# Altium integrated library Analog Devices Data Converters Digital-to-Analog Converters.IntLib: 2231 symbols (part 103 of 181)
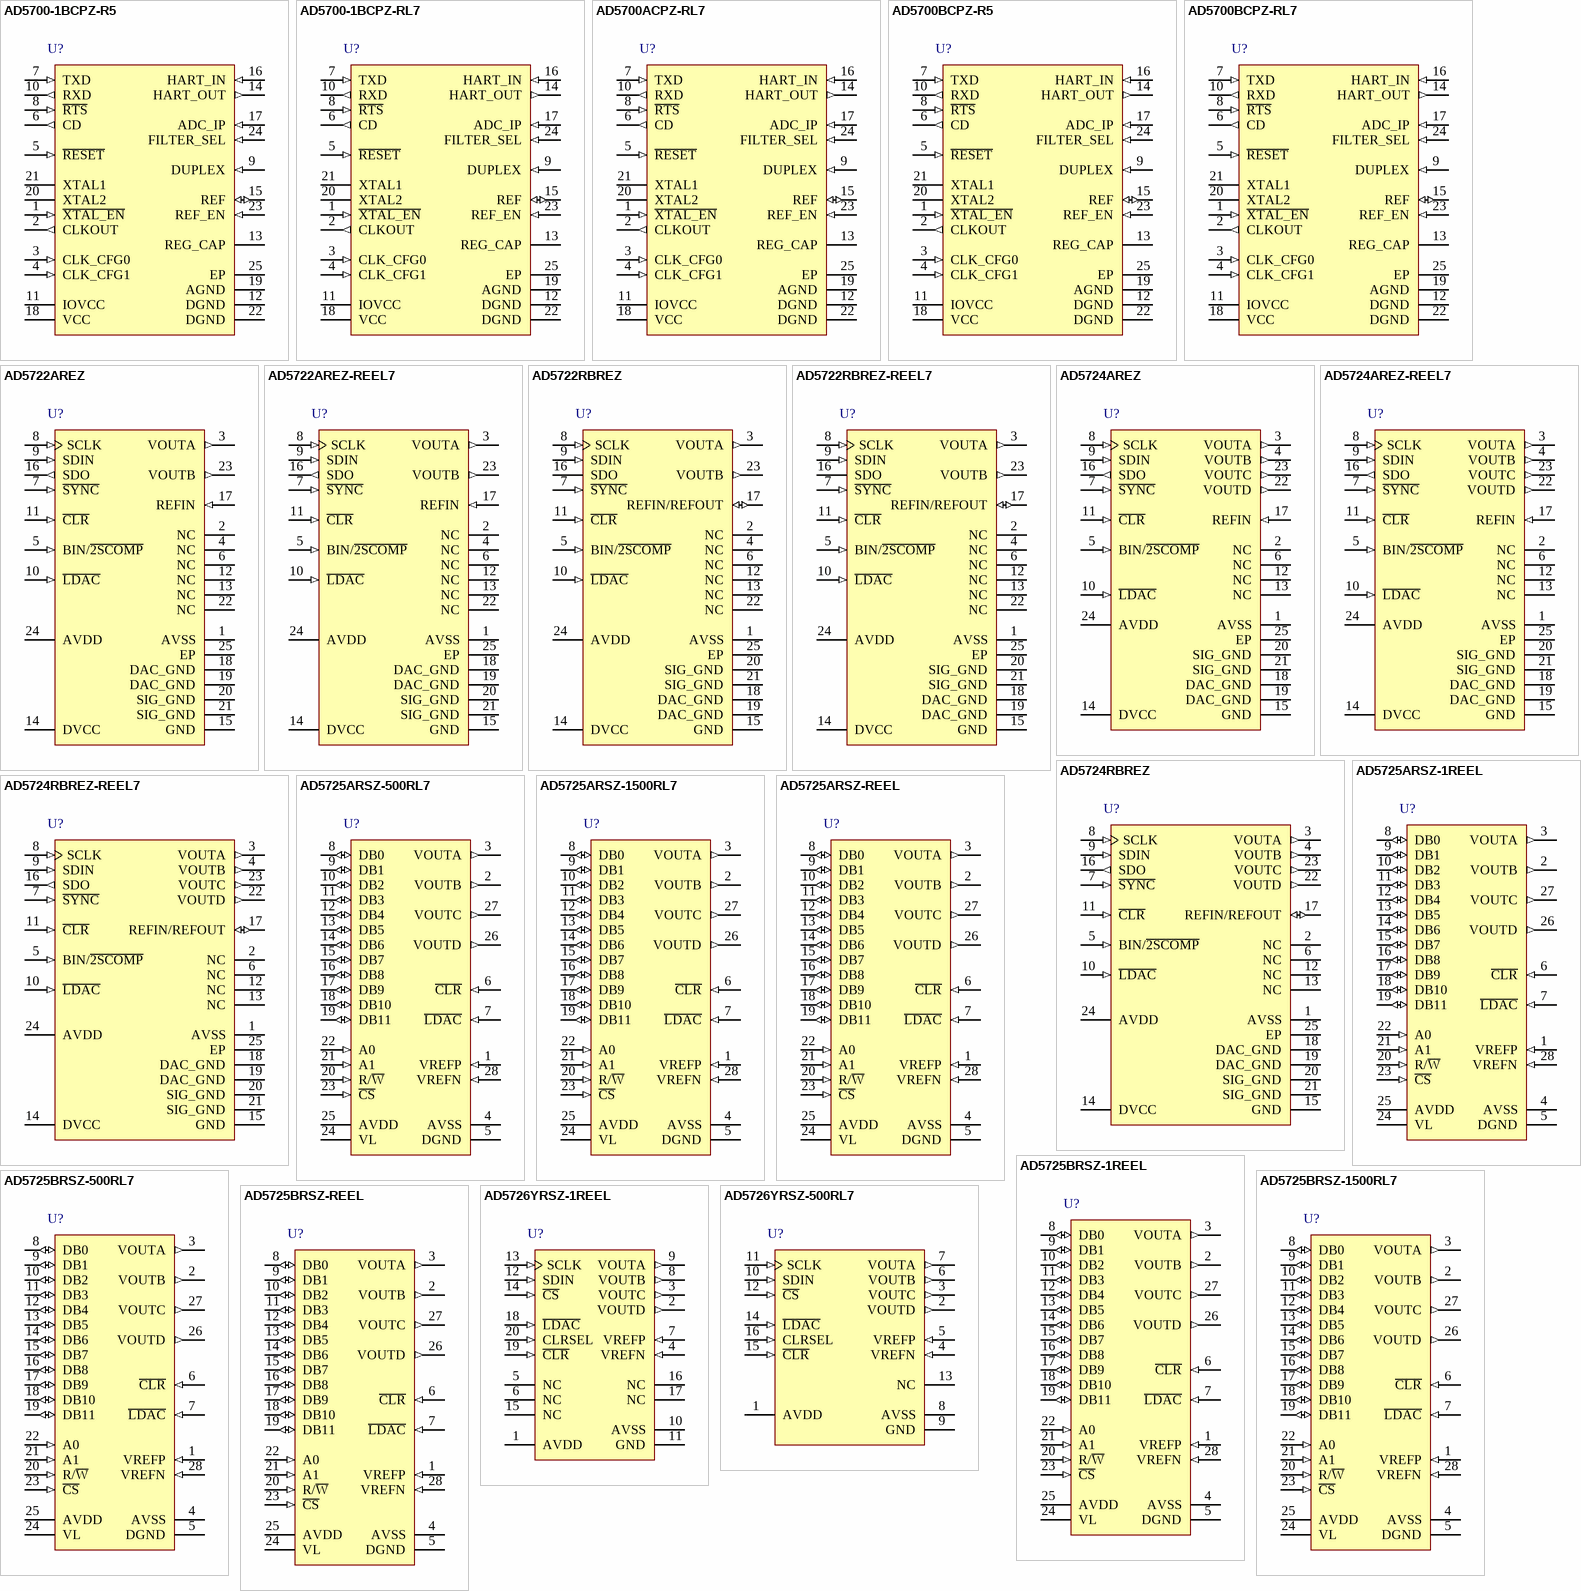
[diagram p216: symbols AD5700-1BCPZ-R5 to AD5726YRSZ-500RL7]

## AD5725BRSZ-1REEL
designator U?
12-Bit Voltage Output Digital-to-Analog Converter with Parallel Interface, -40 to +85 degC, RS-28, Pb-Free, Reel; Generic Part Number: AD5725; Manufacturer: Analog Devices; PartNumber: AD5725BRSZ-1REEL; # DAC Outputs: 4; Max V+: 15V; Op Pwr Diss: 270mW; Resolution (Bits): 12; Settling Time: 7µs; Single Supply: Yes; DatasheetVersion: Rev.A; PackageVersion: 060106-A; PackageReference: RS-28; PackageDescription: 28-Lead Shrink Small Outline Package [SSOP]; Supplier 1: Digi-Key; Supplier Part Number 1: AD5725BRSZ-1REELTR-ND; Supplier 2: Digi-Key; Supplier Part Number 2: AD5725BRSZ-1REELCT-ND; Supplier 3: Digi-Key; Supplier Part Number 3: AD5725BRSZ-1REELDKR-ND; Supplier 4: Mouser; Supplier Part Number 4: 584-AD5725BRSZ-1R; Packing: Reel; RoHS: Y; Mounting Technology: Surface Mount; Code_JEDEC: MO-150-AH; ComponentLink1Description: Manufacturer URL; ComponentLink1URL: http://www.analog.com/en/index.html; ComponentLink2Description: Datasheet; ComponentLink2URL: http://www.analog.com/static/imported-files/data_sheets/AD5725.pdf; ComponentLink3Description: Package Specification; ComponentLink3URL: http://www.analog.com/static/imported-files/packages/32122249223724RS_28.pdf; ComponentLink4Description: Product URL; ComponentLink4URL: http://www.analog.com/en/digital-to-analog-converters/da-converters/ad5725/products/product.html
footprint RS-28_N (SOP, 28-Leads, Body 10.2x5.3mm, Pitch 0.65mm, IPC Medium Density)
footprint RS-28_L (SOP, 28-Leads, Body 10.2x5.3mm, Pitch 0.65mm, IPC High Density)
footprint RS-28_M (SOP, 28-Leads, Body 10.2x5.3mm, Pitch 0.65mm, IPC Low Density)
pins: 1 VREFP (in) "Positive DAC Reference Input. The voltage applied to this pin defines the full-scale output voltage. Allowable range is AVDD - 2.5 V to VREFN + 2.5 V.", 2 VOUTB (out) "Buffered Analog Output Voltage of DAC B.", 3 VOUTA (out) "Buffered Analog Output Voltage of DAC A.", 4 AVSS (power) "Negative Analog Supply Pin. Voltage ranges from 0 V to -15 V.", 5 DGND (power) "Digital Ground Pin.", 6 ~{CLR} (in) "Active Low Input. Sets input registers and DAC registers to midscale (0x800) for the AD5725.", 7 ~{LDAC} (in) "Active Low Load DAC Input.", 8 DB0 (io) "Data Bit 0 (LSB).", 9 DB1 (io) "Data Bit 1.", 10 DB2 (io) "Data Bit 2.", 11 DB3 (io) "Data Bit 3.", 12 DB4 (io) "Data Bit 4.", 13 DB5 (io) "Data Bit 5.", 14 DB6 (io) "Data Bit 6.", 15 DB7 (io) "Data Bit 7.", 16 DB8 (io) "Data Bit 8.", 17 DB9 (io) "Data Bit 9.", 18 DB10 (io) "Data Bit 10.", 19 DB11 (io) "Data Bit 11 (MSB).", 20 R/~{W} (in) "Read/Write Pin. Active low to write data to DAC; Active high to read back previous data at data bit pins with VL connected to +5 V.", 21 A1 (in) "Address Bit 1.", 22 A0 (in) "Address Bit 0.", 23 ~{CS} (in) "Active Low Chip Select Pin.", 24 VL (power) "Voltage Supply for Readback Function. Can be left open circuit if not used.", 25 AVDD (power) "Positive Analog Supply Pin. Voltage ranges from +5 V to +15 V.", 26 VOUTD (out) "Buffered Analog Output Voltage of DAC D.", 27 VOUTC (out) "Buffered Analog Output Voltage of DAC C.", 28 VREFN (in) "Negative DAC Reference Input. The voltage applied to this pin defines the zero-scale output voltage. Allowable range is AVSS to VREFP - 2.5 V."

## AD5725BRSZ-500RL7
designator U?
Quad 12-Bit Voltage Output Digital-to-Analog Converter with Parallel Interface, -40 to +85 degC, RS-28, Pb-Free, Reel; Generic Part Number: AD5725; Manufacturer: Analog Devices; PartNumber: AD5725BRSZ-500RL7; # DAC Outputs: 4; Max V+: 15V; Op Pwr Diss: 270mW; Resolution (Bits): 12; Settling Time: 7µs; Single Supply: Yes; DatasheetVersion: Rev.A; PackageVersion: 060106-A; PackageReference: RS-28; PackageDescription: 28-Lead Shrink Small Outline Package [SSOP]; Supplier 1: Digi-Key; Supplier Part Number 1: AD5725BRSZ-500RL7TR-ND; Supplier 2: Digi-Key; Supplier Part Number 2: AD5725BRSZ-500RL7CT-ND; Supplier 3: Digi-Key; Supplier Part Number 3: AD5725BRSZ-500RL7DKR-ND; Supplier 4: Newark; Supplier Part Number 4: 34M5023; Supplier 5: Mouser; Supplier Part Number 5: 584-AD5725BRSZ-500R7; Packing: Reel; RoHS: Y; Mounting Technology: Surface Mount; Code_JEDEC: MO-150-AH; ComponentLink1Description: Manufacturer URL; ComponentLink1URL: http://www.analog.com/en/index.html; ComponentLink2Description: Datasheet; ComponentLink2URL: http://www.analog.com/static/imported-files/data_sheets/AD5725.pdf; ComponentLink3Description: Package Specification; ComponentLink3URL: http://www.analog.com/static/imported-files/packages/32122249223724RS_28.pdf; ComponentLink4Description: Product URL; ComponentLink4URL: http://www.analog.com/en/digital-to-analog-converters/da-converters/ad5725/products/product.html
footprint RS-28_N (SOP, 28-Leads, Body 10.2x5.3mm, Pitch 0.65mm, IPC Medium Density)
footprint RS-28_L (SOP, 28-Leads, Body 10.2x5.3mm, Pitch 0.65mm, IPC High Density)
footprint RS-28_M (SOP, 28-Leads, Body 10.2x5.3mm, Pitch 0.65mm, IPC Low Density)
pins: 1 VREFP (in) "Positive DAC Reference Input. The voltage applied to this pin defines the full-scale output voltage. Allowable range is AVDD - 2.5 V to VREFN + 2.5 V.", 2 VOUTB (out) "Buffered Analog Output Voltage of DAC B.", 3 VOUTA (out) "Buffered Analog Output Voltage of DAC A.", 4 AVSS (power) "Negative Analog Supply Pin. Voltage ranges from 0 V to -15 V.", 5 DGND (power) "Digital Ground Pin.", 6 ~{CLR} (in) "Active Low Input. Sets input registers and DAC registers to midscale (0x800) for the AD5725.", 7 ~{LDAC} (in) "Active Low Load DAC Input.", 8 DB0 (io) "Data Bit 0 (LSB).", 9 DB1 (io) "Data Bit 1.", 10 DB2 (io) "Data Bit 2.", 11 DB3 (io) "Data Bit 3.", 12 DB4 (io) "Data Bit 4.", 13 DB5 (io) "Data Bit 5.", 14 DB6 (io) "Data Bit 6.", 15 DB7 (io) "Data Bit 7.", 16 DB8 (io) "Data Bit 8.", 17 DB9 (io) "Data Bit 9.", 18 DB10 (io) "Data Bit 10.", 19 DB11 (io) "Data Bit 11 (MSB).", 20 R/~{W} (in) "Read/Write Pin. Active low to write data to DAC; Active high to read back previous data at data bit pins with VL connected to +5 V.", 21 A1 (in) "Address Bit 1.", 22 A0 (in) "Address Bit 0.", 23 ~{CS} (in) "Active Low Chip Select Pin.", 24 VL (power) "Voltage Supply for Readback Function. Can be left open circuit if not used.", 25 AVDD (power) "Positive Analog Supply Pin. Voltage ranges from +5 V to +15 V.", 26 VOUTD (out) "Buffered Analog Output Voltage of DAC D.", 27 VOUTC (out) "Buffered Analog Output Voltage of DAC C.", 28 VREFN (in) "Negative DAC Reference Input. The voltage applied to this pin defines the zero-scale output voltage. Allowable range is AVSS to VREFP - 2.5 V."

## AD5725BRSZ-1500RL7
designator U?
12-Bit Voltage Output Digital-to-Analog Converter with Parallel Interface, -40 to +85 degC, RS-28, Pb-Free, Reel; Generic Part Number: AD5725; Manufacturer: Analog Devices; PartNumber: AD5725BRSZ-1500RL7; # DAC Outputs: 4; Max V+: 15V; Op Pwr Diss: 270mW; Resolution (Bits): 12; Settling Time: 7µs; Single Supply: Yes; DatasheetVersion: Rev.A; PackageVersion: 060106-A; PackageReference: RS-28; PackageDescription: 28-Lead Shrink Small Outline Package [SSOP]; Supplier 1: Digi-Key; Supplier Part Number 1: AD5725BRSZ-1500RL7TR-ND; Supplier 2: Digi-Key; Supplier Part Number 2: AD5725BRSZ-1500RL7CT-ND; Supplier 3: Digi-Key; Supplier Part Number 3: AD5725BRSZ-1500RL7DKR-ND; Supplier 4: Mouser; Supplier Part Number 4: 584-AD5725BRSZ1500R7; Packing: Reel; RoHS: Y; Mounting Technology: Surface Mount; Code_JEDEC: MO-150-AH; ComponentLink1Description: Manufacturer URL; ComponentLink1URL: http://www.analog.com/en/index.html; ComponentLink2Description: Datasheet; ComponentLink2URL: http://www.analog.com/static/imported-files/data_sheets/AD5725.pdf; ComponentLink3Description: Package Specification; ComponentLink3URL: http://www.analog.com/static/imported-files/packages/32122249223724RS_28.pdf; ComponentLink4Description: Product URL; ComponentLink4URL: http://www.analog.com/en/digital-to-analog-converters/da-converters/ad5725/products/product.html
footprint RS-28_N (SOP, 28-Leads, Body 10.2x5.3mm, Pitch 0.65mm, IPC Medium Density)
footprint RS-28_L (SOP, 28-Leads, Body 10.2x5.3mm, Pitch 0.65mm, IPC High Density)
footprint RS-28_M (SOP, 28-Leads, Body 10.2x5.3mm, Pitch 0.65mm, IPC Low Density)
pins: 1 VREFP (in) "Positive DAC Reference Input. The voltage applied to this pin defines the full-scale output voltage. Allowable range is AVDD - 2.5 V to VREFN + 2.5 V.", 2 VOUTB (out) "Buffered Analog Output Voltage of DAC B.", 3 VOUTA (out) "Buffered Analog Output Voltage of DAC A.", 4 AVSS (power) "Negative Analog Supply Pin. Voltage ranges from 0 V to -15 V.", 5 DGND (power) "Digital Ground Pin.", 6 ~{CLR} (in) "Active Low Input. Sets input registers and DAC registers to midscale (0x800) for the AD5725.", 7 ~{LDAC} (in) "Active Low Load DAC Input.", 8 DB0 (io) "Data Bit 0 (LSB).", 9 DB1 (io) "Data Bit 1.", 10 DB2 (io) "Data Bit 2.", 11 DB3 (io) "Data Bit 3.", 12 DB4 (io) "Data Bit 4.", 13 DB5 (io) "Data Bit 5.", 14 DB6 (io) "Data Bit 6.", 15 DB7 (io) "Data Bit 7.", 16 DB8 (io) "Data Bit 8.", 17 DB9 (io) "Data Bit 9.", 18 DB10 (io) "Data Bit 10.", 19 DB11 (io) "Data Bit 11 (MSB).", 20 R/~{W} (in) "Read/Write Pin. Active low to write data to DAC; Active high to read back previous data at data bit pins with VL connected to +5 V.", 21 A1 (in) "Address Bit 1.", 22 A0 (in) "Address Bit 0.", 23 ~{CS} (in) "Active Low Chip Select Pin.", 24 VL (power) "Voltage Supply for Readback Function. Can be left open circuit if not used.", 25 AVDD (power) "Positive Analog Supply Pin. Voltage ranges from +5 V to +15 V.", 26 VOUTD (out) "Buffered Analog Output Voltage of DAC D.", 27 VOUTC (out) "Buffered Analog Output Voltage of DAC C.", 28 VREFN (in) "Negative DAC Reference Input. The voltage applied to this pin defines the zero-scale output voltage. Allowable range is AVSS to VREFP - 2.5 V."

## AD5725BRSZ-REEL
designator U?
Quad 12-Bit Voltage Output Digital-to-Analog Converter with Parallel Interface, -40 to +85 degC, RS-28, Pb-Free, Reel; Generic Part Number: AD5725; Manufacturer: Analog Devices; PartNumber: AD5725BRSZ-REEL; # DAC Outputs: 4; Max V+: 15V; Op Pwr Diss: 270mW; Resolution (Bits): 12; Settling Time: 7µs; Single Supply: Yes; DatasheetVersion: Rev.A; PackageVersion: 060106-A; PackageReference: RS-28; PackageDescription: 28-Lead Shrink Small Outline Package [SSOP]; Supplier 1: Digi-Key; Supplier Part Number 1: AD5725BRSZ-REELTR-ND; Supplier 2: Digi-Key; Supplier Part Number 2: AD5725BRSZ-REELCT-ND; Supplier 3: Digi-Key; Supplier Part Number 3: AD5725BRSZ-REELDKR-ND; Supplier 4: Newark; Supplier Part Number 4: 34M5020; Supplier 5: Mouser; Supplier Part Number 5: 584-AD5725BRSZ-R; Packing: Reel; RoHS: Y; Mounting Technology: Surface Mount; Code_JEDEC: MO-150-AH; ComponentLink1Description: Manufacturer URL; ComponentLink1URL: http://www.analog.com/en/index.html; ComponentLink2Description: Datasheet; ComponentLink2URL: http://www.analog.com/static/imported-files/data_sheets/AD5725.pdf; ComponentLink3Description: Package Specification; ComponentLink3URL: http://www.analog.com/static/imported-files/packages/32122249223724RS_28.pdf; ComponentLink4Description: Product URL; ComponentLink4URL: http://www.analog.com/en/digital-to-analog-converters/da-converters/ad5725/products/product.html
footprint RS-28_N (SOP, 28-Leads, Body 10.2x5.3mm, Pitch 0.65mm, IPC Medium Density)
footprint RS-28_L (SOP, 28-Leads, Body 10.2x5.3mm, Pitch 0.65mm, IPC High Density)
footprint RS-28_M (SOP, 28-Leads, Body 10.2x5.3mm, Pitch 0.65mm, IPC Low Density)
pins: 1 VREFP (in) "Positive DAC Reference Input. The voltage applied to this pin defines the full-scale output voltage. Allowable range is AVDD - 2.5 V to VREFN + 2.5 V.", 2 VOUTB (out) "Buffered Analog Output Voltage of DAC B.", 3 VOUTA (out) "Buffered Analog Output Voltage of DAC A.", 4 AVSS (power) "Negative Analog Supply Pin. Voltage ranges from 0 V to -15 V.", 5 DGND (power) "Digital Ground Pin.", 6 ~{CLR} (in) "Active Low Input. Sets input registers and DAC registers to midscale (0x800) for the AD5725.", 7 ~{LDAC} (in) "Active Low Load DAC Input.", 8 DB0 (io) "Data Bit 0 (LSB).", 9 DB1 (io) "Data Bit 1.", 10 DB2 (io) "Data Bit 2.", 11 DB3 (io) "Data Bit 3.", 12 DB4 (io) "Data Bit 4.", 13 DB5 (io) "Data Bit 5.", 14 DB6 (io) "Data Bit 6.", 15 DB7 (io) "Data Bit 7.", 16 DB8 (io) "Data Bit 8.", 17 DB9 (io) "Data Bit 9.", 18 DB10 (io) "Data Bit 10.", 19 DB11 (io) "Data Bit 11 (MSB).", 20 R/~{W} (in) "Read/Write Pin. Active low to write data to DAC; Active high to read back previous data at data bit pins with VL connected to +5 V.", 21 A1 (in) "Address Bit 1.", 22 A0 (in) "Address Bit 0.", 23 ~{CS} (in) "Active Low Chip Select Pin.", 24 VL (power) "Voltage Supply for Readback Function. Can be left open circuit if not used.", 25 AVDD (power) "Positive Analog Supply Pin. Voltage ranges from +5 V to +15 V.", 26 VOUTD (out) "Buffered Analog Output Voltage of DAC D.", 27 VOUTC (out) "Buffered Analog Output Voltage of DAC C.", 28 VREFN (in) "Negative DAC Reference Input. The voltage applied to this pin defines the zero-scale output voltage. Allowable range is AVSS to VREFP - 2.5 V."

## AD5726YRSZ-1REEL
designator U?
Quad 12-Bit Voltage Output Digital-to-Analog Converter with Serial Interface, -40 to +125 degC, RS-20, Pb-Free, Reel; Generic Part Number: AD5726; Manufacturer: Analog Devices; PartNumber: AD5726YRSZ-1REEL; # DAC Outputs: 4; Max V+: 15.75V; Op Pwr Diss: 240mW; Resolution (Bits): 12; Settling Time: 9µs; Single Supply: Yes; DatasheetVersion: Rev.B; PackageVersion: Mar-2003; PackageReference: RS-20; PackageDescription: 20-Lead Shrink Small Outline Package [SSOP]; Supplier 1: Digi-Key; Supplier Part Number 1: AD5726YRSZ-1REELTR-ND; Supplier 2: Digi-Key; Supplier Part Number 2: AD5726YRSZ-1REELCT-ND; Supplier 3: Digi-Key; Supplier Part Number 3: AD5726YRSZ-1REELDKR-ND; Supplier 4: Mouser; Supplier Part Number 4: 584-AD5726YRSZ-1R; Packing: Reel; RoHS: Y; Mounting Technology: Surface Mount; Code_JEDEC: MO-150AE; ComponentLink1Description: Manufacturer URL; ComponentLink1URL: http://www.analog.com/en/index.html; ComponentLink2Description: Datasheet; ComponentLink2URL: http://www.analog.com/static/imported-files/data_sheets/AD5726.pdf; ComponentLink3Description: Package Specification; ComponentLink3URL: http://www.analog.com/static/imported-files/packages/318405805657546556503576154334802686596RS_20.pdf; ComponentLink4Description: Product URL; ComponentLink4URL: http://www.analog.com/en/digital-to-analog-converters/da-converters/ad5726/products/product.html
footprint RS-20_N (SOP, 20-Leads, Body 7.2x5.3mm, Pitch 0.65mm, IPC Medium Density)
footprint RS-20_L (SOP, 20-Leads, Body 7.2x5.3mm, Pitch 0.65mm, IPC High Density)
footprint RS-20_M (SOP, 20-Leads, Body 7.2x5.3mm, Pitch 0.65mm, IPC Low Density)
pins: 1 AVDD (power) "Positive Analog Supply Pin. Voltage range is from 5 V to 15 V.", 2 VOUTD (out) "Buffered Analog Output Voltage of DAC D.", 3 VOUTC (out) "Buffered Analog Output Voltage of DAC C.", 4 VREFN (in) "Negative DAC Reference Input. The voltage applied to this pin defines the zero-scale output. Allowable range is AVSS to VREFP - 2.5 V.", 5 NC "No Internal Connection.", 6 NC "No Internal Connection.", 7 VREFP (in) "Positive DAC Reference Input. The voltage applied to this pin defines the full-scale output voltage. Allowable range is AVDD - 2.5 V to VREFN + 2.5 V.", 8 VOUTB (out) "Buffered Analog Output Voltage of DAC B.", 9 VOUTA (out) "Buffered Analog Output Voltage of DAC A.", 10 AVSS (power) "Negative Analog Supply Pin. Voltage range is from 0 V to -15 V.", 11 GND (power) "Ground Reference Pin.", 12 SDIN (in) "Serial Data Input. Data must be valid on the rising edge of SCLK. This input is ignored when C\S\ is high.", 13 SCLK (in) "Serial Clock Input. Data is clocked into the input register on the rising edge of SCLK.", 14 ~{CS} (in) "Active Low Chip Select Pin. This pin must be active for data to be clocked in. This pin is logically OR’ed with the SCLK input and disables the serial data input when high.", 15 NC "No Internal Connection.", 16 NC "No Internal Connection.", 17 NC "No Internal Connection.", 18 ~{LDAC} (in) "Active Low, Asynchronous Load DAC Input. The data currently contained in the serial input register is transferred out to the DAC data registers on the falling edge of L\D\A\C\, independent of C\S\. Input data must remain (See Datasheet)", 19 ~{CLR} (in) "Active Low Input. Sets input register and DAC registers to zero-scale (0x000) or midscale (0x800), depending on the state of CLRSEL. The data in the serial input register is unaffected by this control.", 20 CLRSEL (in) "Determines the action of C\L\R\. If high, a clear command sets the internal DAC registers to midscale (0x800). If low, the registers are set to zero (0x000)."

## AD5726YRSZ-500RL7
designator U?
Quad 12-Bit Voltage Output Digital-to-Analog Converter with Serial Interface, -40 to +125 degC, RS-16, Pb-Free, Reel; Generic Part Number: AD5726; Manufacturer: Analog Devices; PartNumber: AD5726YRSZ-500RL7; # DAC Outputs: 4; Max V+: 15.75V; Op Pwr Diss: 240mW; Resolution (Bits): 12; Settling Time: 9µs; Single Supply: Yes; DatasheetVersion: Rev.B; PackageVersion: Mar-2005; PackageReference: RS-16; PackageDescription: 16-Lead Shrink Small Outline Package [SSOP]; Supplier 1: Digi-Key; Supplier Part Number 1: AD5726YRSZ-500RL7TR-ND; Supplier 2: Digi-Key; Supplier Part Number 2: AD5726YRSZ-500RL7CT-ND; Supplier 3: Digi-Key; Supplier Part Number 3: AD5726YRSZ-500RL7DKR-ND; Supplier 4: Newark; Supplier Part Number 4: 46M5261; Supplier 5: Mouser; Supplier Part Number 5: 584-AD5726YRSZ-500R7; Packing: Reel; RoHS: Y; Mounting Technology: Surface Mount; Code_JEDEC: MO-150-AC; ComponentLink1Description: Manufacturer URL; ComponentLink1URL: http://www.analog.com/en/index.html; ComponentLink2Description: Datasheet; ComponentLink2URL: http://www.analog.com/static/imported-files/data_sheets/AD5726.pdf; ComponentLink3Description: Package Specification; ComponentLink3URL: http://www.analog.com/static/imported-files/packages/31572257652246RS_16.pdf; ComponentLink4Description: Product URL; ComponentLink4URL: http://www.analog.com/en/digital-to-analog-converters/da-converters/ad5726/products/product.html
footprint RS-16_N (SOP, 16-Leads, Body 6.2x5.3mm, Pitch 0.65mm, IPC Medium Density)
footprint RS-16_L (SOP, 16-Leads, Body 6.2x5.3mm, Pitch 0.65mm, IPC High Density)
footprint RS-16_M (SOP, 16-Leads, Body 6.2x5.3mm, Pitch 0.65mm, IPC Low Density)
pins: 1 AVDD (power) "Positive Analog Supply Pin. Voltage range is from 5 V to 15 V.", 2 VOUTD (out) "Buffered Analog Output Voltage of DAC D.", 3 VOUTC (out) "Buffered Analog Output Voltage of DAC C.", 4 VREFN (in) "Negative DAC Reference Input. The voltage applied to this pin defines the zero-scale output. Allowable range is AVSS to VREFP -2.5 V.", 5 VREFP (in) "Positive DAC Reference Input. The voltage applied to this pin defines the full-scale output voltage. Allowable range is AVDD - 2.5 V to VREFN +2.5 V.", 6 VOUTB (out) "Buffered Analog Output Voltage of DAC B.", 7 VOUTA (out) "Buffered Analog Output Voltage of DAC A.", 8 AVSS (power) "Negative Analog Supply Pin. Voltage range is from 0 V to -15 V.", 9 GND (power) "Ground Reference Pin.", 10 SDIN (in) "Serial Data Input. Data must be valid on the rising edge of SCLK. This input is ignored when C\S\ is high.", 11 SCLK (in) "Serial Clock Input. Data is clocked into the input register on the rising edge of SCLK.", 12 ~{CS} (in) "Active Low Chip Select Pin. This pin must be active for data to be clocked in. This pin is logically OR’ed with the SCLK input and disables the serial data input when high.", 13 NC "No Internal Connection.", 14 ~{LDAC} (in) "Active Low, Asynchronous Load DAC Input. The data currently contained in the serial input register is transferred out to the DAC data registers on the falling edge of L\D\A\C\, independent of C\S\. Input data must remain (See Datasheet)", 15 ~{CLR} (in) "Active Low Input. Sets input register and DAC registers to zero-scale (0x000) or midscale (0x800), depending on the state of CLRSEL. The data in the serial input register is unaffected by this control.", 16 CLRSEL (in) "Determines the action of C\L\R\. If high, a clear command sets the internal DAC registers to midscale (0x800). If low, the registers are set to zero (0x000)."

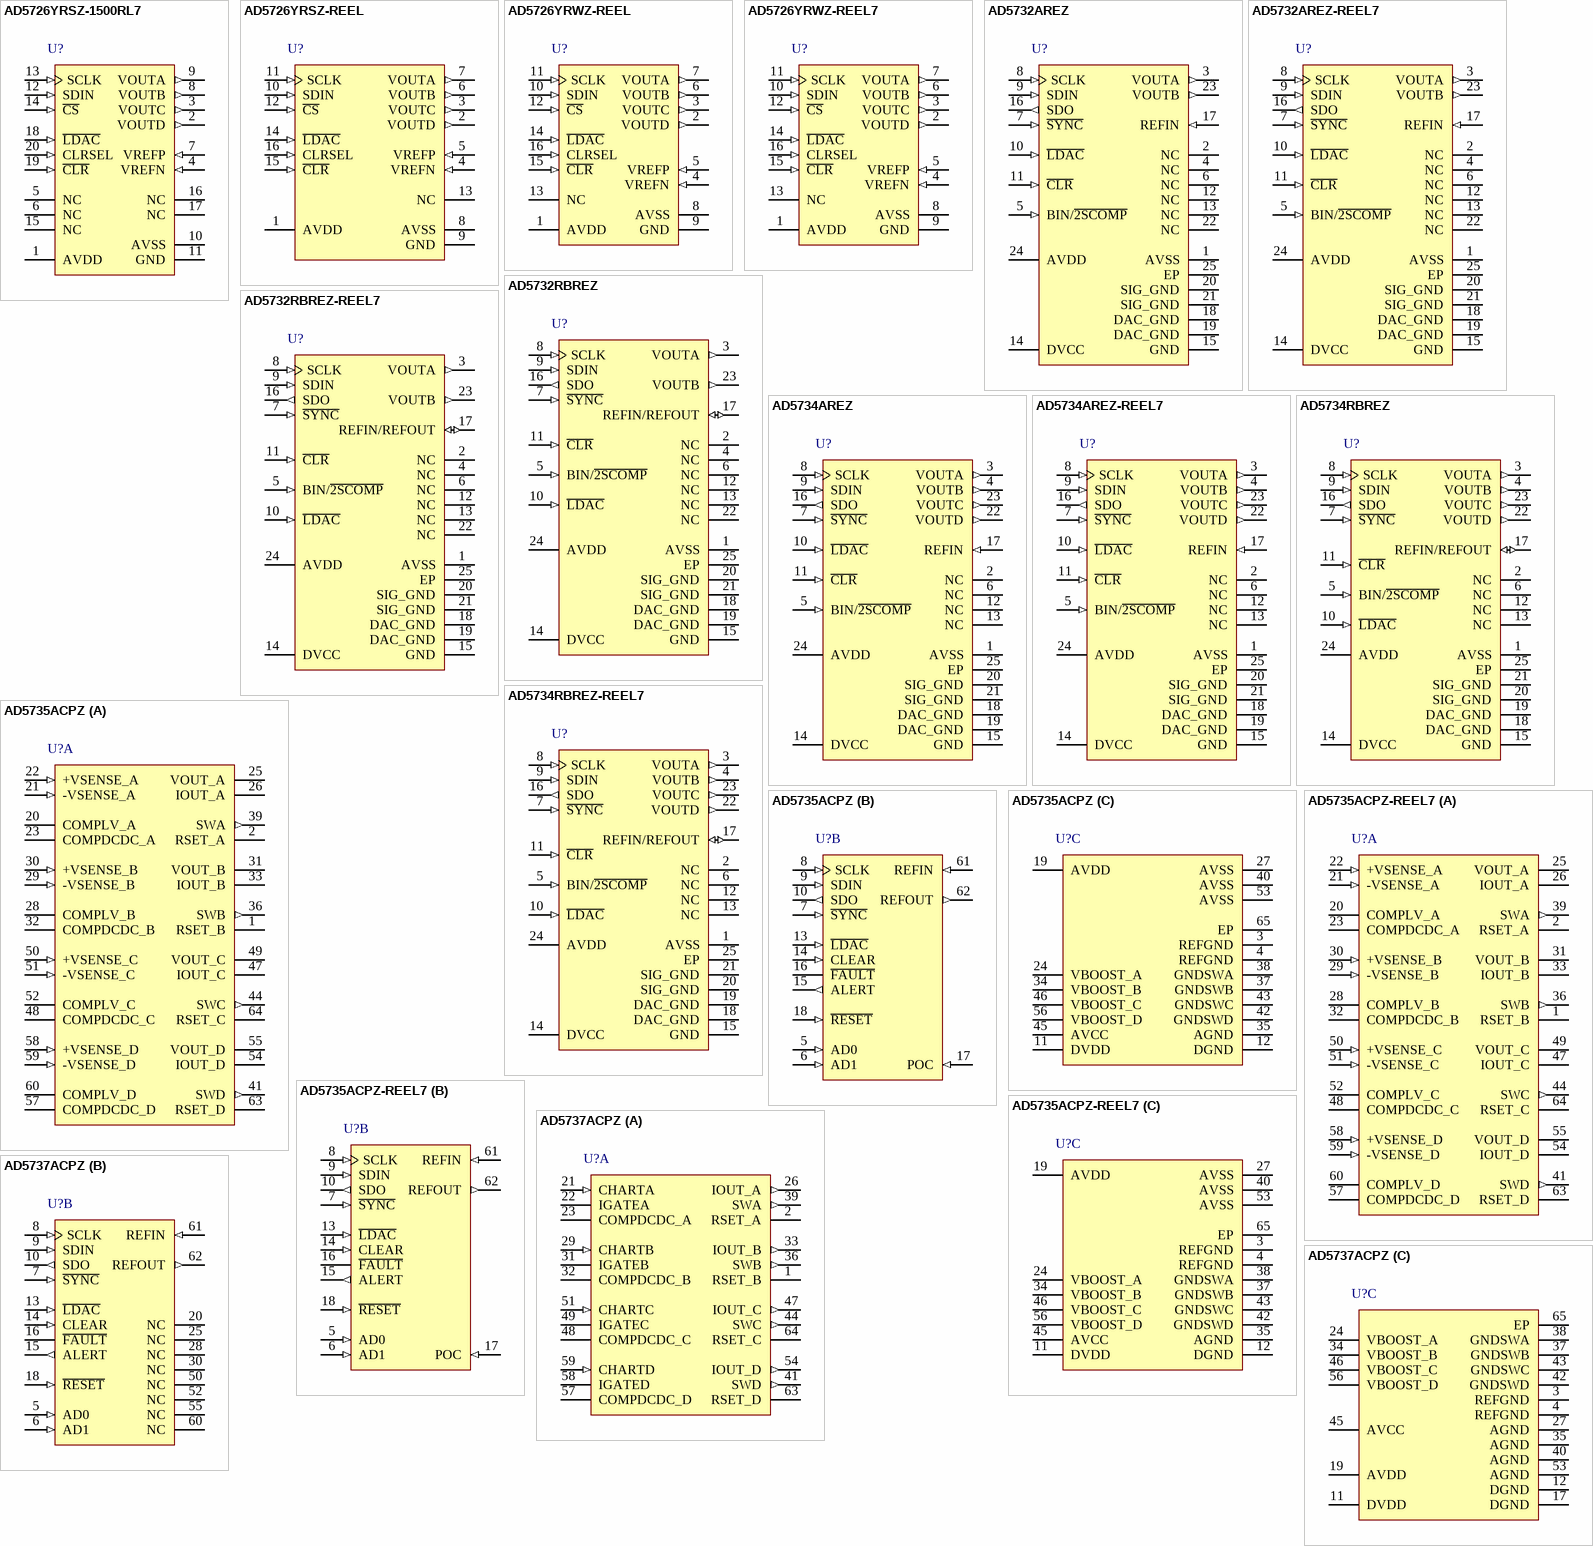
[diagram p54: symbols AD5726YRSZ-1500RL7 to AD5737ACPZ]

## AD5726YRSZ-1500RL7
designator U?
Quad 12-Bit Voltage Output Digital-to-Analog Converter with Serial Interface, -40 to +125 degC, RS-20, Pb-Free, Reel; Generic Part Number: AD5726; Manufacturer: Analog Devices; PartNumber: AD5726YRSZ-1500RL7; # DAC Outputs: 4; Max V+: 15.75V; Op Pwr Diss: 240mW; Resolution (Bits): 12; Settling Time: 9µs; Single Supply: Yes; DatasheetVersion: Rev.B; PackageVersion: Mar-2003; PackageReference: RS-20; PackageDescription: 20-Lead Shrink Small Outline Package [SSOP]; Supplier 1: Digi-Key; Supplier Part Number 1: AD5726YRSZ-1500RL7TR-ND; Supplier 2: Digi-Key; Supplier Part Number 2: AD5726YRSZ-1500RL7CT-ND; Supplier 3: Digi-Key; Supplier Part Number 3: AD5726YRSZ-1500RL7DKR-ND; Supplier 4: Mouser; Supplier Part Number 4: 584-AD5726YRSZ1500R7; Packing: Reel; RoHS: Y; Mounting Technology: Surface Mount; Code_JEDEC: MO-150AE; ComponentLink1Description: Manufacturer URL; ComponentLink1URL: http://www.analog.com/en/index.html; ComponentLink2Description: Datasheet; ComponentLink2URL: http://www.analog.com/static/imported-files/data_sheets/AD5726.pdf; ComponentLink3Description: Package Specification; ComponentLink3URL: http://www.analog.com/static/imported-files/packages/318405805657546556503576154334802686596RS_20.pdf; ComponentLink4Description: Product URL; ComponentLink4URL: http://www.analog.com/en/digital-to-analog-converters/da-converters/ad5726/products/product.html
footprint RS-20_N (SOP, 20-Leads, Body 7.2x5.3mm, Pitch 0.65mm, IPC Medium Density)
footprint RS-20_L (SOP, 20-Leads, Body 7.2x5.3mm, Pitch 0.65mm, IPC High Density)
footprint RS-20_M (SOP, 20-Leads, Body 7.2x5.3mm, Pitch 0.65mm, IPC Low Density)
pins: 1 AVDD (power) "Positive Analog Supply Pin. Voltage range is from 5 V to 15 V.", 2 VOUTD (out) "Buffered Analog Output Voltage of DAC D.", 3 VOUTC (out) "Buffered Analog Output Voltage of DAC C.", 4 VREFN (in) "Negative DAC Reference Input. The voltage applied to this pin defines the zero-scale output. Allowable range is AVSS to VREFP - 2.5 V.", 5 NC "No Internal Connection.", 6 NC "No Internal Connection.", 7 VREFP (in) "Positive DAC Reference Input. The voltage applied to this pin defines the full-scale output voltage. Allowable range is AVDD - 2.5 V to VREFN + 2.5 V.", 8 VOUTB (out) "Buffered Analog Output Voltage of DAC B.", 9 VOUTA (out) "Buffered Analog Output Voltage of DAC A.", 10 AVSS (power) "Negative Analog Supply Pin. Voltage range is from 0 V to -15 V.", 11 GND (power) "Ground Reference Pin.", 12 SDIN (in) "Serial Data Input. Data must be valid on the rising edge of SCLK. This input is ignored when C\S\ is high.", 13 SCLK (in) "Serial Clock Input. Data is clocked into the input register on the rising edge of SCLK.", 14 ~{CS} (in) "Active Low Chip Select Pin. This pin must be active for data to be clocked in. This pin is logically OR’ed with the SCLK input and disables the serial data input when high.", 15 NC "No Internal Connection.", 16 NC "No Internal Connection.", 17 NC "No Internal Connection.", 18 ~{LDAC} (in) "Active Low, Asynchronous Load DAC Input. The data currently contained in the serial input register is transferred out to the DAC data registers on the falling edge of L\D\A\C\, independent of C\S\. Input data must remain (See Datasheet)", 19 ~{CLR} (in) "Active Low Input. Sets input register and DAC registers to zero-scale (0x000) or midscale (0x800), depending on the state of CLRSEL. The data in the serial input register is unaffected by this control.", 20 CLRSEL (in) "Determines the action of C\L\R\. If high, a clear command sets the internal DAC registers to midscale (0x800). If low, the registers are set to zero (0x000)."

## AD5726YRSZ-REEL
designator U?
Quad 12-Bit Voltage Output Digital-to-Analog Converter with Serial Interface, -40 to +125 degC, RS-16, Pb-Free, Reel; Generic Part Number: AD5726; Manufacturer: Analog Devices; PartNumber: AD5726YRSZ-REEL; # DAC Outputs: 4; Max V+: 15.75V; Op Pwr Diss: 240mW; Resolution (Bits): 12; Settling Time: 9µs; Single Supply: Yes; DatasheetVersion: Rev.B; PackageVersion: Mar-2005; PackageReference: RS-16; PackageDescription: 16-Lead Shrink Small Outline Package [SSOP]; Supplier 1: Digi-Key; Supplier Part Number 1: AD5726YRSZ-REELTR-ND; Supplier 2: Digi-Key; Supplier Part Number 2: AD5726YRSZ-REELCT-ND; Supplier 3: Digi-Key; Supplier Part Number 3: AD5726YRSZ-REELDKR-ND; Supplier 4: Farnell; Supplier Part Number 4: 2314134; Supplier 5: Newark; Supplier Part Number 5: 67W3170; Supplier 6: Newark; Supplier Part Number 6: 46M5260; Supplier 7: Mouser; Supplier Part Number 7: 584-AD5726YRSZ-R; Packing: Reel; RoHS: Y; Mounting Technology: Surface Mount; Code_JEDEC: MO-150-AC; ComponentLink1Description: Manufacturer URL; ComponentLink1URL: http://www.analog.com/en/index.html; ComponentLink2Description: Datasheet; ComponentLink2URL: http://www.analog.com/static/imported-files/data_sheets/AD5726.pdf; ComponentLink3Description: Package Specification; ComponentLink3URL: http://www.analog.com/static/imported-files/packages/31572257652246RS_16.pdf; ComponentLink4Description: Product URL; ComponentLink4URL: http://www.analog.com/en/digital-to-analog-converters/da-converters/ad5726/products/product.html
footprint RS-16_N (SOP, 16-Leads, Body 6.2x5.3mm, Pitch 0.65mm, IPC Medium Density)
footprint RS-16_L (SOP, 16-Leads, Body 6.2x5.3mm, Pitch 0.65mm, IPC High Density)
footprint RS-16_M (SOP, 16-Leads, Body 6.2x5.3mm, Pitch 0.65mm, IPC Low Density)
pins: 1 AVDD (power) "Positive Analog Supply Pin. Voltage range is from 5 V to 15 V.", 2 VOUTD (out) "Buffered Analog Output Voltage of DAC D.", 3 VOUTC (out) "Buffered Analog Output Voltage of DAC C.", 4 VREFN (in) "Negative DAC Reference Input. The voltage applied to this pin defines the zero-scale output. Allowable range is AVSS to VREFP -2.5 V.", 5 VREFP (in) "Positive DAC Reference Input. The voltage applied to this pin defines the full-scale output voltage. Allowable range is AVDD - 2.5 V to VREFN +2.5 V.", 6 VOUTB (out) "Buffered Analog Output Voltage of DAC B.", 7 VOUTA (out) "Buffered Analog Output Voltage of DAC A.", 8 AVSS (power) "Negative Analog Supply Pin. Voltage range is from 0 V to -15 V.", 9 GND (power) "Ground Reference Pin.", 10 SDIN (in) "Serial Data Input. Data must be valid on the rising edge of SCLK. This input is ignored when C\S\ is high.", 11 SCLK (in) "Serial Clock Input. Data is clocked into the input register on the rising edge of SCLK.", 12 ~{CS} (in) "Active Low Chip Select Pin. This pin must be active for data to be clocked in. This pin is logically OR’ed with the SCLK input and disables the serial data input when high.", 13 NC "No Internal Connection.", 14 ~{LDAC} (in) "Active Low, Asynchronous Load DAC Input. The data currently contained in the serial input register is transferred out to the DAC data registers on the falling edge of L\D\A\C\, independent of C\S\. Input data must remain (See Datasheet)", 15 ~{CLR} (in) "Active Low Input. Sets input register and DAC registers to zero-scale (0x000) or midscale (0x800), depending on the state of CLRSEL. The data in the serial input register is unaffected by this control.", 16 CLRSEL (in) "Determines the action of C\L\R\. If high, a clear command sets the internal DAC registers to midscale (0x800). If low, the registers are set to zero (0x000)."

## AD5726YRWZ-REEL
designator U?
Quad 12-Bit Voltage Output Digital-to-Analog Converter with Serial Interface, -40 to +125 degC, RW-16, Pb-Free, Reel; Generic Part Number: AD5726; Manufacturer: Analog Devices; PartNumber: AD5726YRWZ-REEL; # DAC Outputs: 4; Max V+: 15.75V; Op Pwr Diss: 240mW; Resolution (Bits): 12; Settling Time: 9µs; Single Supply: Yes; DatasheetVersion: Rev.B; PackageVersion: 032707-B; PackageReference: RW-16; PackageDescription: 16-Lead Standard Small Outline Package [SOIC_W]; Supplier 1: Digi-Key; Supplier Part Number 1: AD5726YRWZ-REELTR-ND; Supplier 2: Digi-Key; Supplier Part Number 2: AD5726YRWZ-REELCT-ND; Supplier 3: Digi-Key; Supplier Part Number 3: AD5726YRWZ-REELDKR-ND; Supplier 4: Mouser; Supplier Part Number 4: 584-AD5726YRWZ-R; Packing: Reel; RoHS: Y; Mounting Technology: Surface Mount; Code_JEDEC: MS-013-AA; Code_IPC: SOIC127P1030-16; ComponentLink1Description: Manufacturer URL; ComponentLink1URL: http://www.analog.com/en/index.html; ComponentLink2Description: Datasheet; ComponentLink2URL: http://www.analog.com/static/imported-files/data_sheets/AD5726.pdf; ComponentLink3Description: Package Specification; ComponentLink3URL: http://www.analog.com/static/imported-files/packages/PKG_PDF/SOIC_WIDE%20%28RW%29/RW_16.pdf; ComponentLink4Description: Product URL; ComponentLink4URL: http://www.analog.com/en/digital-to-analog-converters/da-converters/ad5726/products/product.html
footprint RW-16_N (SOIC, 16-Leads, Body 10.3x7.5mm, Pitch 1.27mm, IPC Medium Density)
footprint RW-16_L (SOIC, 16-Leads, Body 10.3x7.5mm, Pitch 1.27mm, IPC High Density)
footprint RW-16_M (SOIC, 16-Leads, Body 10.3x7.5mm, Pitch 1.27mm, IPC Low Density)
pins: 1 AVDD (power) "Positive Analog Supply Pin. Voltage range is from 5 V to 15 V.", 2 VOUTD (out) "Buffered Analog Output Voltage of DAC D.", 3 VOUTC (out) "Buffered Analog Output Voltage of DAC C.", 4 VREFN (in) "Negative DAC Reference Input. The voltage applied to this pin defines the zero-scale output. Allowable range is AVSS to VREFP - 2.5 V.", 5 VREFP (in) "Positive DAC Reference Input. The voltage applied to this pin defines the full-scale output voltage. Allowable range is AVDD - 2.5 V to VREFN + 2.5 V.", 6 VOUTB (out) "Buffered Analog Output Voltage of DAC B.", 7 VOUTA (out) "Buffered Analog Output Voltage of DAC A.", 8 AVSS (power) "Negative Analog Supply Pin. Voltage range is from 0 V to -15 V.", 9 GND (power) "Ground Reference Pin.", 10 SDIN (in) "Serial Data Input. Data must be valid on the rising edge of SCLK. This input is ignored when C\S\ is high.", 11 SCLK (in) "Serial Clock Input. Data is clocked into the input register on the rising edge of SCLK.", 12 ~{CS} (in) "Active Low Chip Select Pin. This pin must be active for data to be clocked in. This pin is logically OR’ed with the SCLK input and disables the serial data input when high.", 13 NC "No Internal Connection.", 14 ~{LDAC} (in) "Active Low, Asynchronous Load DAC Input. The data currently contained in the serial input register is transferred out to the DAC data registers on the falling edge of L\D\A\C\, independent of C\S\. Input data must remain (See Datasheet)", 15 ~{CLR} (in) "Active Low Input. Sets input register and DAC registers to zero-scale (0x000) or midscale (0x800), depending on the state of CLRSEL. The data in the serial input register is unaffected by this control.", 16 CLRSEL (in) "Determines the action of C\L\R\. If high, a clear command sets the internal DAC registers to midscale (0x800). If low, the registers are set to zero (0x000)."

## AD5726YRWZ-REEL7
designator U?
Quad 12-Bit Voltage Output Digital-to-Analog Converter with Serial Interface, -40 to +125 degC, RW-16, Pb-Free, Reel; Generic Part Number: AD5726; Manufacturer: Analog Devices; PartNumber: AD5726YRWZ-REEL7; # DAC Outputs: 4; Max V+: 15.75V; Op Pwr Diss: 240mW; Resolution (Bits): 12; Settling Time: 9µs; Single Supply: Yes; DatasheetVersion: Rev.B; PackageVersion: 032707-B; PackageReference: RW-16; PackageDescription: 16-Lead Standard Small Outline Package [SOIC_W]; Supplier 1: Digi-Key; Supplier Part Number 1: AD5726YRWZ-REEL7TR-ND; Supplier 2: Digi-Key; Supplier Part Number 2: AD5726YRWZ-REEL7CT-ND; Supplier 3: Digi-Key; Supplier Part Number 3: AD5726YRWZ-REEL7DKR-ND; Supplier 4: Newark; Supplier Part Number 4: 46M5263; Supplier 5: Mouser; Supplier Part Number 5: 584-AD5726YRWZ-R7; Packing: Reel; RoHS: Y; Mounting Technology: Surface Mount; Code_JEDEC: MS-013-AA; Code_IPC: SOIC127P1030-16; ComponentLink1Description: Manufacturer URL; ComponentLink1URL: http://www.analog.com/en/index.html; ComponentLink2Description: Datasheet; ComponentLink2URL: http://www.analog.com/static/imported-files/data_sheets/AD5726.pdf; ComponentLink3Description: Package Specification; ComponentLink3URL: http://www.analog.com/static/imported-files/packages/PKG_PDF/SOIC_WIDE%20%28RW%29/RW_16.pdf; ComponentLink4Description: Product URL; ComponentLink4URL: http://www.analog.com/en/digital-to-analog-converters/da-converters/ad5726/products/product.html
footprint RW-16_N (SOIC, 16-Leads, Body 10.3x7.5mm, Pitch 1.27mm, IPC Medium Density)
footprint RW-16_L (SOIC, 16-Leads, Body 10.3x7.5mm, Pitch 1.27mm, IPC High Density)
footprint RW-16_M (SOIC, 16-Leads, Body 10.3x7.5mm, Pitch 1.27mm, IPC Low Density)
pins: 1 AVDD (power) "Positive Analog Supply Pin. Voltage range is from 5 V to 15 V.", 2 VOUTD (out) "Buffered Analog Output Voltage of DAC D.", 3 VOUTC (out) "Buffered Analog Output Voltage of DAC C.", 4 VREFN (in) "Negative DAC Reference Input. The voltage applied to this pin defines the zero-scale output. Allowable range is AVSS to VREFP - 2.5 V.", 5 VREFP (in) "Positive DAC Reference Input. The voltage applied to this pin defines the full-scale output voltage. Allowable range is AVDD - 2.5 V to VREFN + 2.5 V.", 6 VOUTB (out) "Buffered Analog Output Voltage of DAC B.", 7 VOUTA (out) "Buffered Analog Output Voltage of DAC A.", 8 AVSS (power) "Negative Analog Supply Pin. Voltage range is from 0 V to -15 V.", 9 GND (power) "Ground Reference Pin.", 10 SDIN (in) "Serial Data Input. Data must be valid on the rising edge of SCLK. This input is ignored when C\S\ is high.", 11 SCLK (in) "Serial Clock Input. Data is clocked into the input register on the rising edge of SCLK.", 12 ~{CS} (in) "Active Low Chip Select Pin. This pin must be active for data to be clocked in. This pin is logically OR’ed with the SCLK input and disables the serial data input when high.", 13 NC "No Internal Connection.", 14 ~{LDAC} (in) "Active Low, Asynchronous Load DAC Input. The data currently contained in the serial input register is transferred out to the DAC data registers on the falling edge of L\D\A\C\, independent of C\S\. Input data must remain (See Datasheet)", 15 ~{CLR} (in) "Active Low Input. Sets input register and DAC registers to zero-scale (0x000) or midscale (0x800), depending on the state of CLRSEL. The data in the serial input register is unaffected by this control.", 16 CLRSEL (in) "Determines the action of C\L\R\. If high, a clear command sets the internal DAC registers to midscale (0x800). If low, the registers are set to zero (0x000)."

## AD5732AREZ
designator U?
Dual 14-Bit Voltage Output Digital-to-Analog Converter with Serial Interface, -40 to +85 degC, RE-24, Pb-Free, Tube; Generic Part Number: AD5732; Manufacturer: Analog Devices; PartNumber: AD5732AREZ; # DAC Outputs: 2; Max V+: 16.5V; Op Pwr Diss: 190mW; Resolution (Bits): 14; Settling Time: 10µs; Single Supply: Yes; DatasheetVersion: Rev.D; PackageVersion: 050806-A; PackageReference: RE-24; PackageDescription: 24-Lead Thin Shrink Small Outline Package, Exposed Pad [TSSOP_EP]; Supplier 1: Digi-Key; Supplier Part Number 1: AD5732AREZ-ND; Supplier 2: Mouser; Supplier Part Number 2: 584-AD5732AREZ; Packing: Tube; RoHS: Y; Mounting Technology: Surface Mount; Code_JEDEC: MO-153-ADT; ComponentLink1Description: Manufacturer URL; ComponentLink1URL: http://www.analog.com/en/index.html; ComponentLink2Description: Datasheet; ComponentLink2URL: http://www.analog.com/static/imported-files/data_sheets/AD5722_5732_5752.pdf; ComponentLink3Description: Package Specification; ComponentLink3URL: http://www.analog.com/static/imported-files/packages/PKG_PDF/TSSOP_EP(RE)/RE_24.pdf; ComponentLink4Description: Product URL; ComponentLink4URL: http://www.analog.com/en/digital-to-analog-converters/da-converters/ad5732/products/product.html; ComponentLink5Description: Reference Design URL; ComponentLink5URL: http://www.analog.com/en/digital-to-analog-converters/da-converters/ad5732/products/product.html#prod_cross_sell
footprint RE-24_N (TSOP, 24-Leads, Body 7.8x4.4mm, Pitch 0.65mm, Thermal pad 5.02x3.25 mm, IPC Medium Density)
footprint RE-24_L (TSOP, 24-Leads, Body 7.8x4.4mm, Pitch 0.65mm, Thermal pad 5.02x3.25 mm, IPC High Density)
footprint RE-24_M (TSOP, 24-Leads, Body 7.8x4.4mm, Pitch 0.65mm, Thermal pad 5.02x3.25 mm, IPC Low Density)
pins: 1 AVSS (power) "Negative Analog Supply. Voltage ranges from -4.5 V to -16.5 V. This pin can be connected to 0 V if output ranges are unipolar.", 2 NC "Do not connect to these pins.", 3 VOUTA (out) "Analog Output Voltage of DAC A. The output amplifier is capable of directly driving a 2 k ohm, 4000 pF load.", 4 NC "Do not connect to these pins.", 5 BIN/~{2SCOMP} (in) "Determines the DAC coding for a bipolar output range. This pin should be hardwired to either DVCC or GND.When hardwired to DVCC, input coding is offset binary. When hardwired to GND, input coding is twos complement. (For (See Datasheet)", 6 NC "Do not connect to these pins.", 7 ~{SYNC} (in) "Active Low Input. This is the frame synchronization signal for the serial interface. While S\Y\N\C\ is low, data is transferred on the falling edge of SCLK. Data is latched on the rising edge of S\Y\N\C\.", 8 SCLK (in) "Serial Clock Input. Data is clocked into the shift register on the falling edge of SCLK. This operates at clock speeds up to 30 MHz.", 9 SDIN (in) "Serial Data Input. Data must be valid on the falling edge of SCLK.", 10 ~{LDAC} (in) "Load DAC, Logic Input. This is used to update the DAC registers and, consequently, the analog outputs. When this pin is tied permanently low, the addressed DAC register is updated on the rising edge of S\Y\N\C\. If L\D\A\C\ (See Datasheet)", 11 ~{CLR} (in) "Active Low Input. Asserting this pin sets the DAC registers to zero-scale code or midscale code (user-selectable).", 12 NC "Do not connect to these pins.", 13 NC "Do not connect to these pins.", 14 DVCC (power) "Digital Supply. Voltage ranges from 2.7 V to 5.5 V.", 15 GND (power) "Ground Reference.", 16 SDO (out) "Serial Data Output. Used to clock data from the serial register in daisy-chain or readback mode. Data is clocked out on the rising edge of SCLK and is valid on the falling edge of SCLK.", 17 REFIN (in) "External Reference Voltage Input. Reference input range is 2 V to 3 V. REFIN = 2.5 V for specified performance.", 18 DAC_GND (power) "Ground Reference for the Two Digital-to-Analog Converters (DACs).", 19 DAC_GND (power) "Ground Reference for the Two Digital-to-Analog Converters (DACs).", 20 SIG_GND (power) "Ground Reference for the Two Output Amplifiers.", 21 SIG_GND (power) "Ground Reference for the Two Output Amplifiers.", 22 NC "Do not connect to these pins.", 23 VOUTB (out) "Analog Output Voltage of DAC B. The output amplifier is capable of directly driving a 2 k ohm, 4000 pF load.", 24 AVDD (power) "Positive Analog Supply. Voltage ranges from 4.5 V to 16.5 V.", 25 EP (power) "This exposed paddle should be connected to the potential of the AVSS pin, or alternatively, it can be left electrically unconnected. It is recommended that the paddle be thermally connected to a copper plane for enhanced (See Datasheet)"

## AD5732AREZ-REEL7
designator U?
Dual 14-Bit Voltage Output Digital-to-Analog Converter with Serial Interface, -40 to +85 degC, RE-24, Pb-Free, Reel; Generic Part Number: AD5732; Manufacturer: Analog Devices; PartNumber: AD5732AREZ-REEL7; # DAC Outputs: 2; Max V+: 16.5V; Op Pwr Diss: 190mW; Resolution (Bits): 14; Settling Time: 10µs; Single Supply: Yes; DatasheetVersion: Rev.D; PackageVersion: 050806-A; PackageReference: RE-24; PackageDescription: 24-Lead Thin Shrink Small Outline Package, Exposed Pad [TSSOP_EP]; Supplier 1: Digi-Key; Supplier Part Number 1: AD5732AREZ-REEL7-ND; Supplier 2: Mouser; Supplier Part Number 2: 584-AD5732AREZ-R7; Packing: Reel; RoHS: Y; Mounting Technology: Surface Mount; Code_JEDEC: MO-153-ADT; ComponentLink1Description: Manufacturer URL; ComponentLink1URL: http://www.analog.com/en/index.html; ComponentLink2Description: Datasheet; ComponentLink2URL: http://www.analog.com/static/imported-files/data_sheets/AD5722_5732_5752.pdf; ComponentLink3Description: Package Specification; ComponentLink3URL: http://www.analog.com/static/imported-files/packages/PKG_PDF/TSSOP_EP(RE)/RE_24.pdf; ComponentLink4Description: Product URL; ComponentLink4URL: http://www.analog.com/en/digital-to-analog-converters/da-converters/ad5732/products/product.html; ComponentLink5Description: Reference Design URL; ComponentLink5URL: http://www.analog.com/en/digital-to-analog-converters/da-converters/ad5732/products/product.html#prod_cross_sell
footprint RE-24_N (TSOP, 24-Leads, Body 7.8x4.4mm, Pitch 0.65mm, Thermal pad 5.02x3.25 mm, IPC Medium Density)
footprint RE-24_L (TSOP, 24-Leads, Body 7.8x4.4mm, Pitch 0.65mm, Thermal pad 5.02x3.25 mm, IPC High Density)
footprint RE-24_M (TSOP, 24-Leads, Body 7.8x4.4mm, Pitch 0.65mm, Thermal pad 5.02x3.25 mm, IPC Low Density)
pins: 1 AVSS (power) "Negative Analog Supply. Voltage ranges from -4.5 V to -16.5 V. This pin can be connected to 0 V if output ranges are unipolar.", 2 NC "Do not connect to these pins.", 3 VOUTA (out) "Analog Output Voltage of DAC A. The output amplifier is capable of directly driving a 2 k ohm, 4000 pF load.", 4 NC "Do not connect to these pins.", 5 BIN/~{2SCOMP} (in) "Determines the DAC coding for a bipolar output range. This pin should be hardwired to either DVCC or GND.When hardwired to DVCC, input coding is offset binary. When hardwired to GND, input coding is twos complement. (For (See Datasheet)", 6 NC "Do not connect to these pins.", 7 ~{SYNC} (in) "Active Low Input. This is the frame synchronization signal for the serial interface. While S\Y\N\C\ is low, data is transferred on the falling edge of SCLK. Data is latched on the rising edge of S\Y\N\C\.", 8 SCLK (in) "Serial Clock Input. Data is clocked into the shift register on the falling edge of SCLK. This operates at clock speeds up to 30 MHz.", 9 SDIN (in) "Serial Data Input. Data must be valid on the falling edge of SCLK.", 10 ~{LDAC} (in) "Load DAC, Logic Input. This is used to update the DAC registers and, consequently, the analog outputs. When this pin is tied permanently low, the addressed DAC register is updated on the rising edge of S\Y\N\C\. If L\D\A\C\ (See Datasheet)", 11 ~{CLR} (in) "Active Low Input. Asserting this pin sets the DAC registers to zero-scale code or midscale code (user-selectable).", 12 NC "Do not connect to these pins.", 13 NC "Do not connect to these pins.", 14 DVCC (power) "Digital Supply. Voltage ranges from 2.7 V to 5.5 V.", 15 GND (power) "Ground Reference.", 16 SDO (out) "Serial Data Output. Used to clock data from the serial register in daisy-chain or readback mode. Data is clocked out on the rising edge of SCLK and is valid on the falling edge of SCLK.", 17 REFIN (in) "External Reference Voltage Input. Reference input range is 2 V to 3 V. REFIN = 2.5 V for specified performance.", 18 DAC_GND (power) "Ground Reference for the Two Digital-to-Analog Converters (DACs).", 19 DAC_GND (power) "Ground Reference for the Two Digital-to-Analog Converters (DACs).", 20 SIG_GND (power) "Ground Reference for the Two Output Amplifiers.", 21 SIG_GND (power) "Ground Reference for the Two Output Amplifiers.", 22 NC "Do not connect to these pins.", 23 VOUTB (out) "Analog Output Voltage of DAC B. The output amplifier is capable of directly driving a 2 k ohm, 4000 pF load.", 24 AVDD (power) "Positive Analog Supply. Voltage ranges from 4.5 V to 16.5 V.", 25 EP (power) "This exposed paddle should be connected to the potential of the AVSS pin, or alternatively, it can be left electrically unconnected. It is recommended that the paddle be thermally connected to a copper plane for enhanced (See Datasheet)"

## AD5732RBREZ
designator U?
Dual 14-Bit Voltage Output Digital-to-Analog Converter with Serial Interface, -40 to +85 degC, RE-24, Pb-Free, Tube; Generic Part Number: AD5732R; Manufacturer: Analog Devices; PartNumber: AD5732RBREZ; # DAC Outputs: 2; Max V+: 16.5V; Op Pwr Diss: 190mW; Resolution (Bits): 14; Settling Time: 7.5µs; Single Supply: Yes; DatasheetVersion: Rev.D; PackageVersion: 050806-A; PackageReference: RE-24; PackageDescription: 24-Lead Thin Shrink Small Outline Package, Exposed Pad [TSSOP_EP]; Supplier 1: Digi-Key; Supplier Part Number 1: AD5732RBREZ-ND; Supplier 2: Mouser; Supplier Part Number 2: 584-AD5732RBREZ; Packing: Tube; RoHS: Y; Mounting Technology: Surface Mount; Code_JEDEC: MO-153-ADT; ComponentLink1Description: Manufacturer URL; ComponentLink1URL: http://www.analog.com/en/index.html; ComponentLink2Description: Datasheet; ComponentLink2URL: http://www.analog.com/static/imported-files/data_sheets/AD5722R_5732R_5752R.pdf; ComponentLink3Description: Package Specification; ComponentLink3URL: http://www.analog.com/static/imported-files/packages/PKG_PDF/TSSOP_EP(RE)/RE_24.pdf; ComponentLink4Description: Product URL; ComponentLink4URL: http://www.analog.com/en/digital-to-analog-converters/da-converters/ad5732r/products/product.html; ComponentLink5Description: Reference Design URL; ComponentLink5URL: http://www.analog.com/en/digital-to-analog-converters/da-converters/ad5732r/products/product.html#prod_cross_sell
footprint RE-24_N (TSOP, 24-Leads, Body 7.8x4.4mm, Pitch 0.65mm, Thermal pad 5.02x3.25 mm, IPC Medium Density)
footprint RE-24_L (TSOP, 24-Leads, Body 7.8x4.4mm, Pitch 0.65mm, Thermal pad 5.02x3.25 mm, IPC High Density)
footprint RE-24_M (TSOP, 24-Leads, Body 7.8x4.4mm, Pitch 0.65mm, Thermal pad 5.02x3.25 mm, IPC Low Density)
pins: 1 AVSS (power) "Negative Analog Supply. Voltage ranges from -4.5 V to -16.5 V. This pin can be connected to 0 V if output ranges are unipolar.", 2 NC "Do not connect to these pins.", 3 VOUTA (out) "Analog Output Voltage of DAC A. The output amplifier is capable of directly driving a 2 kohm, 4000 pF load.", 4 NC "Do not connect to these pins.", 5 BIN/~{2SCOMP} (in) "Determines the DAC coding for a bipolar output range. This pin should be hardwired to either DVCC or GND. When hardwired to DVCC, input coding is offset binary. When hardwired to GND, input coding is twos complement. (For (See Datasheet)", 6 NC "Do not connect to these pins.", 7 ~{SYNC} (in) "Active Low Input. This is the frame Synchronization signal for the serial interface. While S\Y\N\C\ is low, data is transferred on the falling edge of SCLK. Data is latched on the rising edge of S\Y\N\C\.", 8 SCLK (in) "Serial Clock Input. Data is clocked into the shift register on the falling edge of SCLK. This operates at clock speeds up to 30 MHz.", 9 SDIN (in) "Serial Data Input. Data must be valid on the falling edge of SCLK.", 10 ~{LDAC} (in) "Load DAC, Logic Input. This is used to update the DAC registers and, consequently, the analog output. When this pin is tied permanently low, the addressed DAC register is updated on the rising edge of S\Y\N\C\. If L\D\A\C\ (See Datasheet)", 11 ~{CLR} (in) "Active Low Input. Asserting this pin sets the DAC registers to zero-scale code or midscale code (user selectable).", 12 NC "Do not connect to these pins.", 13 NC "Do not connect to these pins.", 14 DVCC (power) "Digital Supply. Voltage ranges from 2.7 V to 5.5 V.", 15 GND (power) "Ground Reference.", 16 SDO (out) "Serial Data Output. Used to clock data from the serial register in daisy-chain or readback mode. Data is clocked out on the rising edge of SCLK and is valid on the falling edge of SCLK.", 17 REFIN/REFOUT (io) "External Reference Voltage Input and Internal Reference Voltage Output. Reference input range is 2 V to 3 V. REFIN = 2.5 V for specified performance. REFOUT = 2.5 V +/- 2 mV.", 18 DAC_GND (power) "Ground Reference for the Four Digital-to-Analog Converters.", 19 DAC_GND (power) "Ground Reference for the Four Digital-to-Analog Converters.", 20 SIG_GND (power) "Ground Reference for the Four Output Amplifiers.", 21 SIG_GND (power) "Ground Reference for the Four Output Amplifiers.", 22 NC "Do not connect to these pins.", 23 VOUTB (out) "Analog Output Voltage of DAC B. The output amplifier is capable of directly driving a 2 k ohm, 4000 pF load.", 24 AVDD (power) "Positive Analog Supply. Voltage ranges from 4.5 V to 16.5 V.", 25 EP "This exposed paddle should be connected to the potential of the AVSS pin, or alternatively, it can be left electrically unconnected. It is recommended that the paddle be thermally connected to a copper plane for enhanced (See Datasheet)"